# EAGLE library part PS3_START_SEL_PAD (library IntelMKR_ExpP)
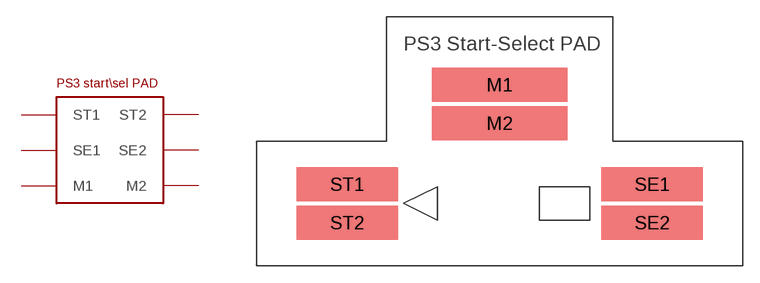
[diagram p5: symbol with the pads of PS3_START_SEL_PAD; footprint PS3_START_SEL_PAD]

Designator prefix -

## PS3_START_SEL_PAD  [PS3_START_SEL_PAD]
M1  M1
M2  M2
SE1  SE1
SE2  SE2
ST1  ST1
ST2  ST2

## Footprint PS3_START_SEL_PAD (pad centres in mm)
smd 12 x 3: M1 0,10.5; M2 0,7.1
smd 9 x 3: SE1 13.5,1.7; SE2 13.5,-1.7; ST1 -13.5,1.7; ST2 -13.5,-1.7